# Altium footprint library SparkFun-Connectors.PCBLIB: 327 footprints (part 14 of 21)
Each footprint in its own frame and in the unit in brackets; x right, y up, seen from the top. Pads: shape width x height; smd on the part's side, far side on the other; paste and mask are expansions set on the pad; w line width, h text height; cw(c..) or ccw(c..) is an arc to the next point about the centre after c.
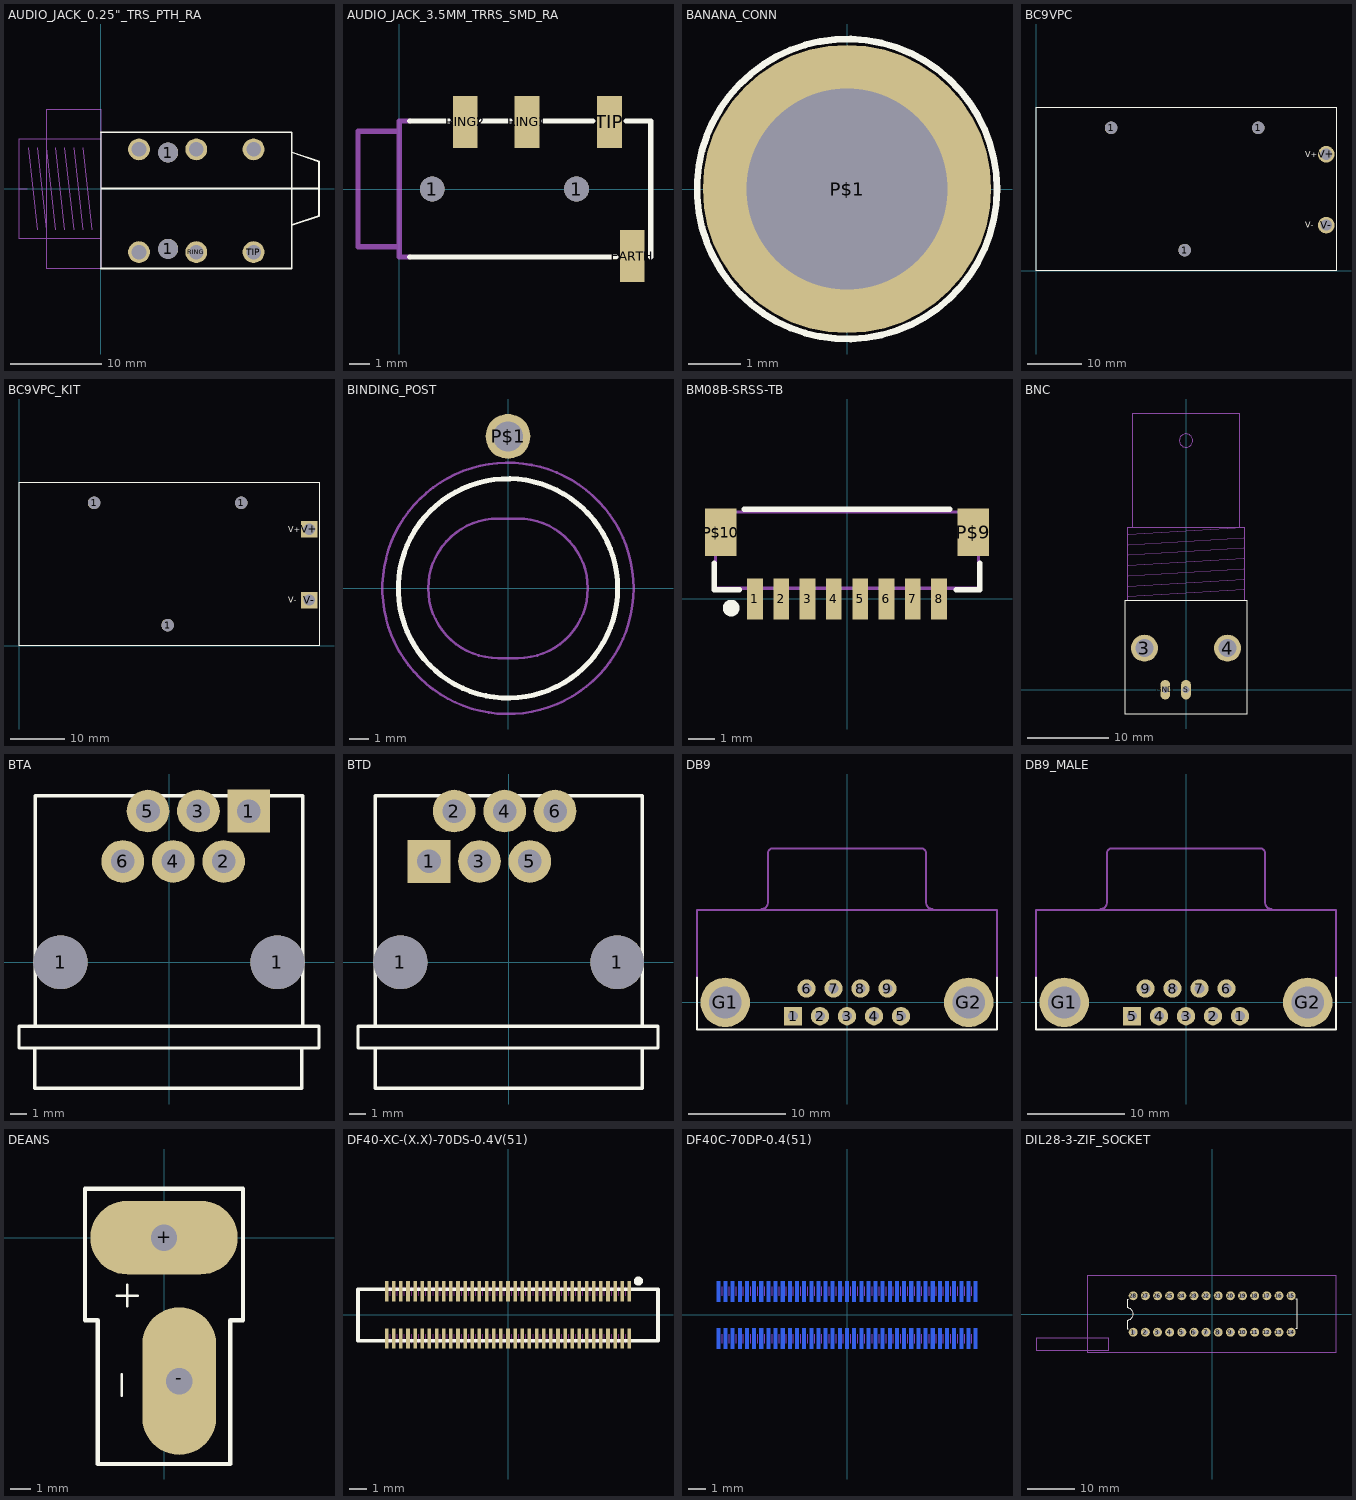
[diagram p13: the footprints below, top view; thin cyan lines are the x and y axes]

## AUDIO_JACK_0.25"_TRS_PTH_RA [mm]
pads (8):
  round 2.2 hole 2.2: 1(7.4,-6.6) 1(7.4,4)
  round 2.4 hole 1.6: RING(10.5,-6.95) RING-NORM(10.5,4.35) SLEEVE(4.2,-6.95) SLEEVE-NORM(4.2,4.35) TIP(16.8,-6.95) TIP-NORM(16.8,4.35)
Top Overlay:
  lines w0.127: 0,-8.77 0,6.23
  lines w0.203: 0,-8.77 21,-8.77 21,-3.97 ; 0,6.23 21,6.23 21,4.03 ; 0.095,0.03 24,0.03 ; 21,-3.97 21,4.03 ; 21,-3.97 24,-2.97 24,0.03 ; 21,4.03 24,3.03 24,0.03
Mechanical 16:
  lines w0.127: -8.1,0.03 -9,0.03 ; -8,4.53 -7,-4.47 ; -7,4.53 -6,-4.47 ; -6,4.53 -5,-4.47 ; -5,4.53 -4,-4.47 ; -4,4.53 -3,-4.47 ; -3,4.53 -2,-4.47 ; -2,4.53 -1,-4.47 ; -9,0.03 -9,-5.47 0,-5.47 0,5.53 -9,5.53 -9,0.03 ; -6,-8.75 0,-8.75 0,8.75 -6,8.75 -6,-8.75

## AUDIO_JACK_3.5MM_TRRS_SMD_RA [mil]
pads (6):
  round 47.24 hole 47.24: 1(62.99,0) 1(338.58,0)
  rect 47.24x98.43 smd: EARTH(444.88,-127.95) RING1(244.09,127.95) RING2(125.98,127.95) TIP(401.57,127.95)
Top Overlay:
  lines w10: 19.69,-129.92 413.39,-129.92 ; 19.69,129.92 94.49,129.92 ; 157.48,129.92 212.6,129.92 ; 275.59,129.92 370.08,129.92 ; 433.07,129.92 480.32,129.92 480.32,-129.92
Mechanical 16:
  lines w10: 19.69,-129.92 0,-129.92 0,-110.24 ; 19.69,129.92 0,129.92 0,110.24 ; 0,-110.24 0,110.24 ; 0,-110.24 -78.74,-110.24 -78.74,110.24 0,110.24

## BANANA_CONN [mil]
pads (1):
  round 215 hole 150: P$1(0,0)
Top Overlay:
  circle w5: c0,0 r111.8

## BC9VPC [mil]
pads (5):
  round 90 hole 90: 1(540,1030) 1(1070,150) 1(1600,1030)
  round 120 hole 80: V+(2090,840) V-(2090,330)
Top Overlay:
  lines w5: 0,0 0,1180 2160,1180 2160,0 0,0
  text "V+" at 1940,820 h42.5
  text "V-" at 1940,310 h42.5

## BC9VPC_KIT [mil]
pads (5):
  round 90 hole 90: 1(540,1030) 1(1070,150) 1(1600,1030)
  rect 120x120 hole 80: V+(2090,840) V-(2090,330)
Top Overlay:
  lines w5: 0,0 0,1180 2160,1180 2160,0 0,0
  text "V+" at 1940,820 h42.5
  text "V-" at 1940,310 h42.5
Bottom Solder:
  rectangle: 2030,780 2150,900
  rectangle: 2030,270 2150,390

## BINDING_POST [mil]
pads (1):
  round 88.59 hole 59.06: P$1(0,300)
Top Overlay:
  circle w10: c0,0 r216.54
Mechanical 1:
  lines w5: -157.48,0 cw(c-19.68,0.01) -19.69,137.8 ; -157.48,0 ccw(c-19.68,-0.01) -19.69,-137.8 ; -157.48,0 cw(c-19.68,0.01) -19.69,137.8 ; -157.48,0 ccw(c-19.68,-0.01) -19.69,-137.8 ; -19.69,-137.8 19.69,-137.8 ; -19.69,-137.8 19.69,-137.8 ; -19.69,137.8 19.69,137.8 ; -19.69,137.8 19.69,137.8 ; 19.69,-137.8 ccw(c19.68,-0.01) 157.48,0 ; 19.69,-137.8 ccw(c19.68,-0.01) 157.48,0 ; 19.69,137.8 cw(c19.68,0.01) 157.48,0 ; 19.69,137.8 cw(c19.68,0.01) 157.48,0
  text "ROUTE" at -100,2.5 h77.5
  text "OUT" at -100,-75 h77.5
Mechanical 27:
  circle w5: c0,0 r216.54
Mechanical 28:
  circle w5: c0,0 r248.06

## BM08B-SRSS-TB [mm]
pads (10):
  rect 0.6x1.55 smd: 1(-3.5,0) 2(-2.5,0) 3(-1.5,0) 4(-0.5,0) 5(0.5,0) 6(1.5,0) 7(2.5,0) 8(3.5,0)
  rect 1.2x1.8 smd: P$9(4.8,2.525) P$10(-4.8,2.525)
Top Overlay:
  circle w0.406: c-4.4,-0.35 r0.112
  lines w0.203: -5.05,1.35 -5.05,0.35 -4.1,0.35 ; -3.9,3.4 3.9,3.4 ; 4.15,0.35 5.05,0.35 5.05,1.35
Mechanical 16:
  lines w0.127: -5,0.4 -5,3.3 5,3.3 5,0.4 -5,0.4

## BNC [mil]
pads (4):
  round 129.91 hole 86.61: 3(-200,200) 4(200,200)
  oval 47.25x94.5 hole 31.5: GND(-100,0) S(0,0)
Top Overlay:
  lines w5: -295,-117 295,-117 295,428 -295,428 -295,-117
Mechanical 16:
  circle w5: c0,1200 r32.2
  lines w5: -280,428 -280,783 -260,783 ; -279,449 279,483 ; -279,499 279,533 ; -279,549 279,583 ; -279,599 279,633 ; -279,649 279,683 ; -279,699 279,733 ; -279,749 279,783 ; 280,428 280,783 279,783 ; -260,783 260,783 ; -260,783 -260,1328 260,1328 260,783 ; 260,783 279,783

## BTA [mm]
pads (8):
  round 3.2 hole 3.2: 1(-6.45,0) 1(6.45,0)
  rect 2.54x2.54 hole 1.4: 1(4.75,9)
  round 2.54 hole 1.4: 2(3.25,6) 3(1.75,9) 4(0.25,6) 5(-1.25,9) 6(-2.75,6)
Top Overlay:
  lines w0.203: -8,-5.1 -8,-7.5 7.9,-7.5 7.9,-5.1 ; -8,-5.1 -8.925,-5.1 -8.925,-3.8 -7.95,-3.8 ; -8,-5.1 7.9,-5.1 ; -7.95,-3.8 -7.95,9.9 7.95,9.9 7.95,-3.8 ; -7.95,-3.8 7.95,-3.8 ; 7.9,-5.1 8.925,-5.1 8.925,-3.8 7.95,-3.8

## BTD [mm]
pads (8):
  round 3.2 hole 3.2: 1(-6.45,0) 1(6.45,0)
  rect 2.54x2.54 hole 1.4: 1(-4.75,6)
  round 2.54 hole 1.4: 2(-3.25,9) 3(-1.75,6) 4(-0.25,9) 5(1.25,6) 6(2.75,9)
Top Overlay:
  lines w0.203: -7.95,-5.1 -8.975,-5.1 -8.975,-3.8 -7.95,-3.8 ; -7.95,-5.1 7.95,-5.1 ; -7.95,-5.1 -7.95,-7.5 7.95,-7.5 7.95,-5.1 ; -7.95,-3.8 -7.95,9.9 7.95,9.9 7.95,-3.8 ; -7.95,-3.8 7.95,-3.8 ; 7.95,-5.1 8.875,-5.1 8.875,-3.8 7.95,-3.8

## DB9 [mil]
pads (11):
  rect 74x74 hole 40: 1(-218.11,-55.91)
  round 74 hole 40: 2(-109.06,-55.91) 3(0,-55.91) 4(109.06,-55.91) 5(218.11,-55.91) 6(-163.39,55.91) 7(-54.33,55.91) 8(54.33,55.91) 9(163.39,55.91)
  round 200 hole 130: G1(-492.13,0) G2(492.13,0)
Top Overlay:
  lines w8: -606.3,100 -606.3,-110.24 606.3,-110.24 606.3,100
Mechanical 16:
  lines w8: -606.3,100.1 -606.3,374.02 606.3,374.02 606.3,100 ; -345,377.32 ccw(c-345,402.32) -320,402.32 -320,602.32 cw(c-300,602.32) -300,622.32 300,622.32 cw(c300,602.32) 320,602.32 320,402.32 ccw(c345,402.32) 345,377.32

## DB9_MALE [mil]
pads (11):
  round 74 hole 40: 1(218.11,-55.91) 2(109.06,-55.91) 3(0,-55.91) 4(-109.06,-55.91) 6(163.39,55.91) 7(54.33,55.91) 8(-54.33,55.91) 9(-163.39,55.91)
  rect 74x74 hole 40: 5(-218.11,-55.91)
  round 200 hole 130: G1(-492.13,0) G2(492.13,0)
Top Overlay:
  lines w8: -606.3,100 -606.3,-110.24 606.3,-110.24 606.3,100
Mechanical 16:
  lines w8: -606.3,100.1 -606.3,374.02 606.3,374.02 606.3,100 ; -345,377.32 ccw(c-345,402.32) -320,402.32 -320,602.32 cw(c-300,602.32) -300,622.32 300,622.32 cw(c300,602.32) 320,602.32 320,402.32 ccw(c345,402.32) 345,377.32

## DEANS [mil]
pads (2):
  oval 280x140 hole 50: +(0,0)
  oval 140x280 hole 50: -(29,-272.5)
Top Overlay:
  lines w5: -90,-110 -50,-110 ; -80,-300 -80,-260 ; -70,-130 -70,-90
  lines w8: -150,-157 -150,93 150,93 150,-157 126,-157 126,-430 -126,-430 -126,-157 -150,-157
Mechanical 1:
  lines w5: -112,-27 112,-27 112,27 -112,27 -112,-27 ; 2,-384 2,-160 56,-160 56,-384 2,-384

## DF40-XC-(X.X)-70DS-0.4V(51) [mm]
pads (70):
  rect 0.2x1.14 smd: 1(6.8,1.32) 2(6.8,-1.32) 3(6.4,1.32) 4(6.4,-1.32) 5(6,1.32) 6(6,-1.32) 7(5.6,1.32) 8(5.6,-1.32) 9(5.2,1.32) 10(5.2,-1.32) 11(4.8,1.32) 12(4.8,-1.32) 13(4.4,1.32) 14(4.4,-1.32) 15(4,1.32) 16(4,-1.32) 17(3.6,1.32) 18(3.6,-1.32) 19(3.2,1.32) 20(3.2,-1.32) 21(2.8,1.32) 22(2.8,-1.32) 23(2.4,1.32) 24(2.4,-1.32) 25(2,1.32) 26(2,-1.32) 27(1.6,1.32) 28(1.6,-1.32) 29(1.2,1.32) 30(1.2,-1.32) 31(0.8,1.32) 32(0.8,-1.32) 33(0.4,1.32) 34(0.4,-1.32) 35(0,1.32) 36(0,-1.32) 37(-0.4,1.32) 38(-0.4,-1.32) 39(-0.8,1.32) 40(-0.8,-1.32) 41(-1.2,1.32) 42(-1.2,-1.32) 43(-1.6,1.32) 44(-1.6,-1.32) 45(-2,1.32) 46(-2,-1.32) 47(-2.4,1.32) 48(-2.4,-1.32) 49(-2.8,1.32) 50(-2.8,-1.32) 51(-3.2,1.32) 52(-3.2,-1.32) 53(-3.6,1.32) 54(-3.6,-1.32) 55(-4,1.32) 56(-4,-1.32) 57(-4.4,1.32) 58(-4.4,-1.32) 59(-4.8,1.32) 60(-4.8,-1.32) 61(-5.2,1.32) 62(-5.2,-1.32) 63(-5.6,1.32) 64(-5.6,-1.32) 65(-6,1.32) 66(-6,-1.32) 67(-6.4,1.32) 68(-6.4,-1.32) 69(-6.8,1.32) 70(-6.8,-1.32)
Top Layer keep-out:
  lines w0.051: -6.6,-1.581 -6.6,-1.069 ; -6.6,1.064 -6.6,1.576 ; -6.2,-1.581 -6.2,-1.069 ; -6.2,1.064 -6.2,1.576 ; -5.8,-1.581 -5.8,-1.069 ; -5.8,1.064 -5.8,1.576 ; -5.4,-1.581 -5.4,-1.069 ; -5.4,1.064 -5.4,1.576 ; -5,-1.581 -5,-1.069 ; -5,1.064 -5,1.576 ; -4.6,-1.581 -4.6,-1.069 ; -4.6,1.064 -4.6,1.576 ; -4.2,-1.581 -4.2,-1.069 ; -4.2,1.064 -4.2,1.576 ; -3.8,-1.581 -3.8,-1.069 ; -3.8,1.064 -3.8,1.576 ; -3.4,-1.581 -3.4,-1.069 ; -3.4,1.064 -3.4,1.576 ; -3,-1.581 -3,-1.069 ; -3,1.064 -3,1.576 ; -2.6,-1.581 -2.6,-1.069 ; -2.6,1.064 -2.6,1.576 ; -2.2,-1.581 -2.2,-1.069 ; -2.2,1.064 -2.2,1.576 ; -1.8,-1.581 -1.8,-1.069 ; -1.8,1.064 -1.8,1.576 ; -1.4,-1.581 -1.4,-1.069 ; -1.4,1.064 -1.4,1.576 ; -1,-1.581 -1,-1.069 ; -1,1.064 -1,1.576 ; -0.6,-1.581 -0.6,-1.069 ; -0.6,1.064 -0.6,1.576 ; -0.2,-1.581 -0.2,-1.069 ; -0.2,1.064 -0.2,1.576 ; 0.2,-1.581 0.2,-1.069 ; 0.2,1.064 0.2,1.576 ; 0.6,-1.581 0.6,-1.069 ; 0.6,1.064 0.6,1.576 ; 1,-1.581 1,-1.069 ; 1,1.064 1,1.576 ; 1.4,-1.581 1.4,-1.069 ; 1.4,1.064 1.4,1.576 ; 1.8,-1.581 1.8,-1.069 ; 1.8,1.064 1.8,1.576 ; 2.2,-1.581 2.2,-1.069 ; 2.2,1.064 2.2,1.576 ; 2.6,-1.581 2.6,-1.069 ; 2.6,1.064 2.6,1.576 ; 3,-1.581 3,-1.069 ; 3,1.064 3,1.576 ; 3.4,-1.581 3.4,-1.069 ; 3.4,1.064 3.4,1.576 ; 3.8,-1.581 3.8,-1.069 ; 3.8,1.064 3.8,1.576 ; 4.2,-1.581 4.2,-1.069 ; 4.2,1.064 4.2,1.576 ; 4.6,-1.581 4.6,-1.069 ; 4.6,1.064 4.6,1.576 ; 5,-1.581 5,-1.069 ; 5,1.064 5,1.576 ; 5.4,-1.581 5.4,-1.069 ; 5.4,1.064 5.4,1.576 ; 5.8,-1.581 5.8,-1.069 ; 5.8,1.064 5.8,1.576 ; 6.2,-1.581 6.2,-1.069 ; 6.2,1.064 6.2,1.576 ; 6.6,-1.581 6.6,-1.069 ; 6.6,1.064 6.6,1.576
Top Overlay:
  circle w0.305: c7.3,1.9 r0.1
  lines w0.203: -8.4,-1.44 8.4,-1.44 8.4,1.44 -8.4,1.44 -8.4,-1.44

## DF40C-70DP-0.4(51) [mm]
pads (74):
  rect 0.2x1.14 smd far side: 1(6.8,1.32) 2(6.8,-1.32) 3(6.4,1.32) 4(6.4,-1.32) 5(6,1.32) 6(6,-1.32) 7(5.6,1.32) 8(5.6,-1.32) 9(5.2,1.32) 10(5.2,-1.32) 11(4.8,1.32) 12(4.8,-1.32) 13(4.4,1.32) 14(4.4,-1.32) 15(4,1.32) 16(4,-1.32) 17(3.6,1.32) 18(3.6,-1.32) 19(3.2,1.32) 20(3.2,-1.32) 21(2.8,1.32) 22(2.8,-1.32) 23(2.4,1.32) 24(2.4,-1.32) 25(2,1.32) 26(2,-1.32) 27(1.6,1.32) 28(1.6,-1.32) 29(1.2,1.32) 30(1.2,-1.32) 31(0.8,1.32) 32(0.8,-1.32) 33(0.4,1.32) 34(0.4,-1.32) 35(0,1.32) 36(0,-1.32) 37(-0.4,1.32) 38(-0.4,-1.32) 39(-0.8,1.32) 40(-0.8,-1.32) 41(-1.2,1.32) 42(-1.2,-1.32) 43(-1.6,1.32) 44(-1.6,-1.32) 45(-2,1.32) 46(-2,-1.32) 47(-2.4,1.32) 48(-2.4,-1.32) 49(-2.8,1.32) 50(-2.8,-1.32) 51(-3.2,1.32) 52(-3.2,-1.32) 53(-3.6,1.32) 54(-3.6,-1.32) 55(-4,1.32) 56(-4,-1.32) 57(-4.4,1.32) 58(-4.4,-1.32) 59(-4.8,1.32) 60(-4.8,-1.32) 61(-5.2,1.32) 62(-5.2,-1.32) 63(-5.6,1.32) 64(-5.6,-1.32) 65(-6,1.32) 66(-6,-1.32) 67(-6.4,1.32) 68(-6.4,-1.32) 69(-6.8,1.32) 70(-6.8,-1.32) NC1(7.2,1.32) NC2(7.2,-1.32) NC3(-7.2,-1.32) NC4(-7.2,1.32)
Bottom Layer keep-out:
  lines w0.051: -7,-1.581 -7,-1.069 ; -7,1.064 -7,1.576 ; -6.6,-1.581 -6.6,-1.069 ; -6.6,1.064 -6.6,1.576 ; -6.2,-1.581 -6.2,-1.069 ; -6.2,1.064 -6.2,1.576 ; -5.8,-1.581 -5.8,-1.069 ; -5.8,1.064 -5.8,1.576 ; -5.4,-1.581 -5.4,-1.069 ; -5.4,1.064 -5.4,1.576 ; -5,-1.581 -5,-1.069 ; -5,1.064 -5,1.576 ; -4.6,-1.581 -4.6,-1.069 ; -4.6,1.064 -4.6,1.576 ; -4.2,-1.581 -4.2,-1.069 ; -4.2,1.064 -4.2,1.576 ; -3.8,-1.581 -3.8,-1.069 ; -3.8,1.064 -3.8,1.576 ; -3.4,-1.581 -3.4,-1.069 ; -3.4,1.064 -3.4,1.576 ; -3,-1.581 -3,-1.069 ; -3,1.064 -3,1.576 ; -2.6,-1.581 -2.6,-1.069 ; -2.6,1.064 -2.6,1.576 ; -2.2,-1.581 -2.2,-1.069 ; -2.2,1.064 -2.2,1.576 ; -1.8,-1.581 -1.8,-1.069 ; -1.8,1.064 -1.8,1.576 ; -1.4,-1.581 -1.4,-1.069 ; -1.4,1.064 -1.4,1.576 ; -1,-1.581 -1,-1.069 ; -1,1.064 -1,1.576 ; -0.6,-1.581 -0.6,-1.069 ; -0.6,1.064 -0.6,1.576 ; -0.2,-1.581 -0.2,-1.069 ; -0.2,1.064 -0.2,1.576 ; 0.2,-1.581 0.2,-1.069 ; 0.2,1.064 0.2,1.576 ; 0.6,-1.581 0.6,-1.069 ; 0.6,1.064 0.6,1.576 ; 1,-1.581 1,-1.069 ; 1,1.064 1,1.576 ; 1.4,-1.581 1.4,-1.069 ; 1.4,1.064 1.4,1.576 ; 1.8,-1.581 1.8,-1.069 ; 1.8,1.064 1.8,1.576 ; 2.2,-1.581 2.2,-1.069 ; 2.2,1.064 2.2,1.576 ; 2.6,-1.581 2.6,-1.069 ; 2.6,1.064 2.6,1.576 ; 3,-1.581 3,-1.069 ; 3,1.064 3,1.576 ; 3.4,-1.581 3.4,-1.069 ; 3.4,1.064 3.4,1.576 ; 3.8,-1.581 3.8,-1.069 ; 3.8,1.064 3.8,1.576 ; 4.2,-1.581 4.2,-1.069 ; 4.2,1.064 4.2,1.576 ; 4.6,-1.581 4.6,-1.069 ; 4.6,1.064 4.6,1.576 ; 5,-1.581 5,-1.069 ; 5,1.064 5,1.576 ; 5.4,-1.581 5.4,-1.069 ; 5.4,1.064 5.4,1.576 ; 5.8,-1.581 5.8,-1.069 ; 5.8,1.064 5.8,1.576 ; 6.2,-1.581 6.2,-1.069 ; 6.2,1.064 6.2,1.576 ; 6.6,-1.581 6.6,-1.069 ; 6.6,1.064 6.6,1.576 ; 7,-1.581 7,-1.069 ; 7,1.064 7,1.576
Bottom Overlay:
  circle w0.305: c7.7,1.9 r0.1
  lines w0.203: -8.4,-1.44 8.4,-1.44 8.4,1.44 -8.4,1.44 -8.4,-1.44

## DIL28-3-ZIF_SOCKET [mil]
pads (28):
  round 74 hole 40: 1(-650,-150) 2(-550,-150) 3(-450,-150) 4(-350,-150) 5(-250,-150) 6(-150,-150) 7(-50,-150) 8(50,-150) 9(150,-150) 10(250,-150) 11(350,-150) 12(450,-150) 13(550,-150) 14(650,-150) 15(650,150) 16(550,150) 17(450,150) 18(350,150) 19(250,150) 20(150,150) 21(50,150) 22(-50,150) 23(-150,150) 24(-250,150) 25(-350,150) 26(-450,150) 27(-550,150) 28(-650,150)
Top Overlay:
  lines w8: -690,-120 -700,-120 -700,-50 ccw(c-700,0) -700,50 -700,120 -690,120 ; 690,-120 700,-120 700,120 690,120
Mechanical 16:
  lines w5: -1027.99,-314.96 1019.25,-314.96 1019.25,314.96 -1027.99,314.96 -1027.99,-314.96
  lines w10: -1450,-300 -1450,-200 -850,-200 -850,-300 -1450,-300